# Altium footprint library BASIC Library.PCBLIB: 464 footprints (part 2 of 30)
Each footprint in its own frame and in the unit in brackets; x right, y up, seen from the top. Pads: shape width x height; smd on the part's side, far side on the other; paste and mask are expansions set on the pad; w line width, h text height; cw(c..) or ccw(c..) is an arc to the next point about the centre after c.
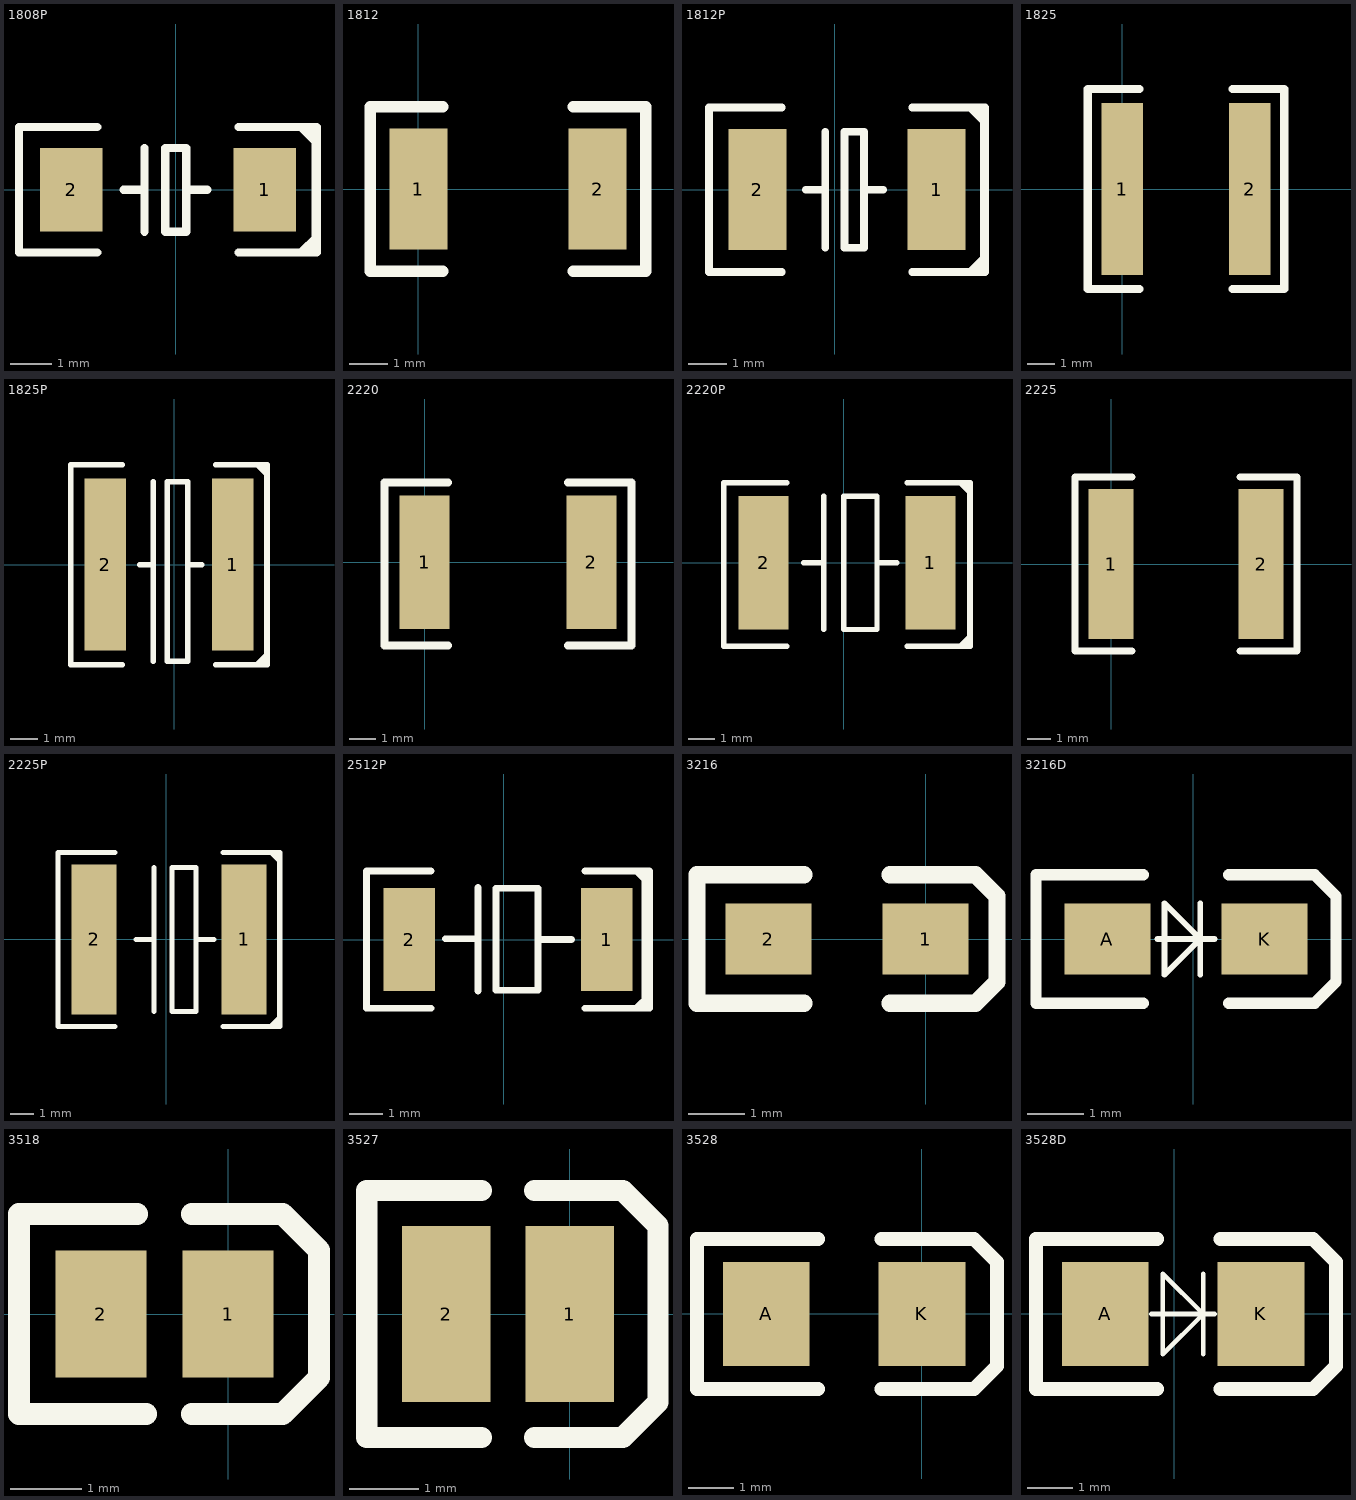
[diagram p1: the footprints below, top view; thin cyan lines are the x and y axes]

## 1808P [mil]
pads (2):
  rect 60x80 smd: 1(85,0) 2(-100,0)
TopOverlay:
  rectangle: 129.25,-59.25 133.75,-49.25
  rectangle: 127.5,-58.5 129.5,-53.5
  rectangle: 123,-60 132,-55
  region: 134.25,54.25 134.25,58.75 124.25,58.75 124.25,54.25
  region: 133.5,52.5 133.5,54.5 128.5,54.5 128.5,52.5
  region: 135,48 135,57 130,57 130,48
  rectangle: 130,-48 135,48
  lines w8: -75,-60 -150,-60 -150,60 -75,60 ; -50,0 -30,0 ; -30,-40 -30,40 ; 10,0 30,0 ; 60,-60 135,-60 135,60 60,60 ; 120,-60 135,-45 ; 120,60 135,45 ; -10,-40 -10,40 10,40 10,-40 -10,-40

## 1812 [mil]
pads (2):
  rect 60x125 smd: 1(0,0) 2(185,0)
TopOverlay:
  lines w12: 25,-85 -50,-85 -50,85 25,85 ; 160,-85 235,-85 235,85 160,85

## 1812P [mil]
pads (2):
  rect 60x125 smd: 1(105,0) 2(-80,0)
TopOverlay:
  rectangle: 149.25,-84.25 153.75,-74.25
  rectangle: 147.5,-83.5 149.5,-78.5
  rectangle: 143,-85 152,-80
  region: 154.25,79.25 154.25,83.75 144.25,83.75 144.25,79.25
  region: 153.5,77.5 153.5,79.5 148.5,79.5 148.5,77.5
  region: 155,73 155,82 150,82 150,73
  rectangle: 150,-73 155,73
  lines w8: -55,-85 -130,-85 -130,85 -55,85 ; -30,0 -10,0 ; -10,-60 -10,60 ; 30,0 50,0 ; 80,-85 155,-85 155,85 80,85 ; 140,-85 155,-70 ; 140,85 155,70 ; 10,-60 30,-60 30,60 10,60 10,-60

## 1825 [mil]
pads (2):
  rect 60x250 smd: 1(0,0) 2(185,0)
TopOverlay:
  lines w12: 25,-145 -50,-145 -50,145 25,145 ; 160,-145 235,-145 235,145 160,145

## 1825P [mil]
pads (2):
  rect 60x250 smd: 1(85,0) 2(-100,0)
TopOverlay:
  rectangle: 130,-133 135,133
  region: 134.25,139.25 134.25,143.75 124.25,143.75 124.25,139.25
  region: 133.5,137.5 133.5,139.5 128.5,139.5 128.5,137.5
  region: 135,133 135,142 130,142 130,133
  rectangle: 129.25,-144.25 133.75,-134.25
  rectangle: 127.5,-143.5 129.5,-138.5
  rectangle: 123,-145 132,-140
  lines w8: -75,-145 -150,-145 -150,145 -75,145 ; -50,0 -30,0 ; -30,-140 -30,120 ; 20,0 40,0 ; 60,-145 135,-145 135,145 60,145 ; 120,-145 135,-130 ; 120,145 135,130 ; -10,-140 0,-140 20,-140 20,120 0,120 -10,120 -10,-140

## 2220 [mil]
pads (2):
  rect 75x200 smd: 1(0,0) 2(250,0)
TopOverlay:
  lines w12: 35,-125 -60,-125 -60,120 35,120 ; 215,-125 310,-125 310,120 215,120

## 2220P [mil]
pads (2):
  rect 75x200 smd: 1(130,0) 2(-120,0)
TopOverlay:
  rectangle: 185,-113 190,108
  region: 190,108 190,117 185,117 185,108
  region: 188.5,112.5 188.5,114.5 183.5,114.5 183.5,112.5
  region: 189.25,114.25 189.25,118.75 179.25,118.75 179.25,114.25
  rectangle: 178,-125 187,-120
  rectangle: 182.5,-123.5 184.5,-118.5
  rectangle: 184.25,-124.25 188.75,-114.25
  lines w8: -85,-125 -180,-125 -180,120 -85,120 ; -60,0 -30,0 ; -30,-100 -30,100 ; 50,0 80,0 ; 95,-125 190,-125 190,120 95,120 ; 175,-125 190,-110 ; 175,120 190,105 ; 0,-100 20,-100 50,-100 50,100 0,100 0,-100

## 2225 [mil]
pads (2):
  rect 75x250 smd: 1(0,0) 2(250,0)
TopOverlay:
  lines w12: 35,-145 -60,-145 -60,145 35,145 ; 215,-145 310,-145 310,145 215,145

## 2225P [mil]
pads (2):
  rect 75x250 smd: 1(130,0) 2(-120,0)
TopOverlay:
  rectangle: 178,-145 187,-140
  rectangle: 182.5,-143.5 184.5,-138.5
  rectangle: 184.25,-144.25 188.75,-134.25
  region: 190,133 190,142 185,142 185,133
  region: 188.5,137.5 188.5,139.5 183.5,139.5 183.5,137.5
  region: 189.25,139.25 189.25,143.75 179.25,143.75 179.25,139.25
  rectangle: 185,-133 190,133
  lines w8: -85,-145 -180,-145 -180,145 -85,145 ; -50,0 -20,0 ; -20,-120 -20,120 ; 50,0 80,0 ; 95,-145 190,-145 190,145 95,145 ; 175,-145 190,-130 ; 175,145 190,130 ; 10,-120 50,-120 50,120 10,120 10,-120

## 2512P [mil]
pads (2):
  rect 60x120 smd: 1(120,0) 2(-110,0)
TopOverlay:
  rectangle: 160.76,-74.24 168.51,75.01
  region: 170,68 170,77 165,77 165,68
  region: 168.5,72.5 168.5,74.5 163.5,74.5 163.5,72.5
  region: 169.25,74.25 169.25,78.75 159.25,78.75 159.25,74.25
  rectangle: 158,-80 167,-75
  rectangle: 162.5,-78.5 164.5,-73.5
  rectangle: 164.25,-79.25 168.75,-69.25
  lines w8: -85,-80 -160,-80 -160,80 -85,80 ; -68,1 -30,1 ; -30,-60 -30,61 ; 40,0 79,0 ; 95,-80 170,-80 170,80 95,80 ; 155,-80 170,-65 ; 155,80 170,65 ; -9,-59 -9,60 40,60 40,-59 -9,-59

## 3216 [mil]
pads (2):
  rect 60x50 smd: 1(0,0) 2(-110,0)
TopOverlay:
  lines w12: -85,-45 -160,-45 -160,45 -85,45 ; -25,-45 35,-45 50,-30 50,30 35,45 -25,45

## 3216D [mil]
pads (2):
  rect 60x50 smd: A(-60,0) K(50,0)
TopOverlay:
  lines w4: -25,0 15,0 ; 5,-25 5,25 ; -20,-25 5,0 -20,25 -20,-25
  lines w8: -35,-45 -110,-45 -110,45 -35,45 ; 25,-45 85,-45 100,-30 100,30 85,45 25,45

## 3518 [mil]
pads (2):
  rect 50x70 smd: 1(0,0) 2(-70,0)
TopOverlay:
  lines w12: -50,55 -115,55 -115,-55 -45,-55 ; -20,-55 30,-55 50,-35 50,35 30,55 -20,55

## 3527 [mil]
pads (2):
  rect 50x100 smd: 1(0,0) 2(-70,0)
TopOverlay:
  lines w12: -50,-70 -115,-70 -115,70 -50,70 ; -20,-70 30,-70 50,-50 50,50 30,70 -20,70

## 3528 [mil]
pads (2):
  rect 75x90 smd: A(-135,0) K(0,0)
TopOverlay:
  lines w12: -90,-65 -195,-65 -195,65 -90,65 ; -35,-65 45,-65 65,-45 65,45 45,65 -35,65

## 3528D [mil]
pads (2):
  rect 75x90 smd: A(-60,0) K(75,0)
TopOverlay:
  lines w4: -20,0 35,0 ; 25,-35 25,35 ; 30,0 25,0 ; 25,0 -10,-35 -10,35 25,0
  lines w12: -15,-65 -120,-65 -120,65 -15,65 ; 40,-65 120,-65 140,-45 140,45 120,65 40,65